# Altium schematic symbol library DISP,LED Matrix,5x7,0.7_,Yellow.Schlib: 1 symbol
Pins are listed as number, name and electrical type; pins without a type are passive.

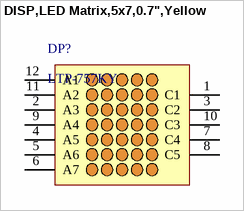
[diagram p0: symbol DISP,LED Matrix,5x7,0.7",Yellow]

## DISP,LED Matrix,5x7,0.7",Yellow
designator DP?, comment LTP-757KY
LED MATRIX 5X7 0.7" AMBER-YELLOW
pins: 1 C1, 2 A3, 3 C2, 4 A5, 5 A6, 6 A7, 7 C4, 8 C5, 9 A4, 10 C3, 11 A2, 12 A1